# Altium footprint library AIRZAI_LID_BD_REVA.PcbLib: 57 footprints (part 2 of 4)
Each footprint in its own frame and in the unit in brackets; x right, y up, seen from the top. Pads: shape width x height; smd on the part's side, far side on the other; paste and mask are expansions set on the pad; w line width, h text height; cw(c..) or ccw(c..) is an arc to the next point about the centre after c.
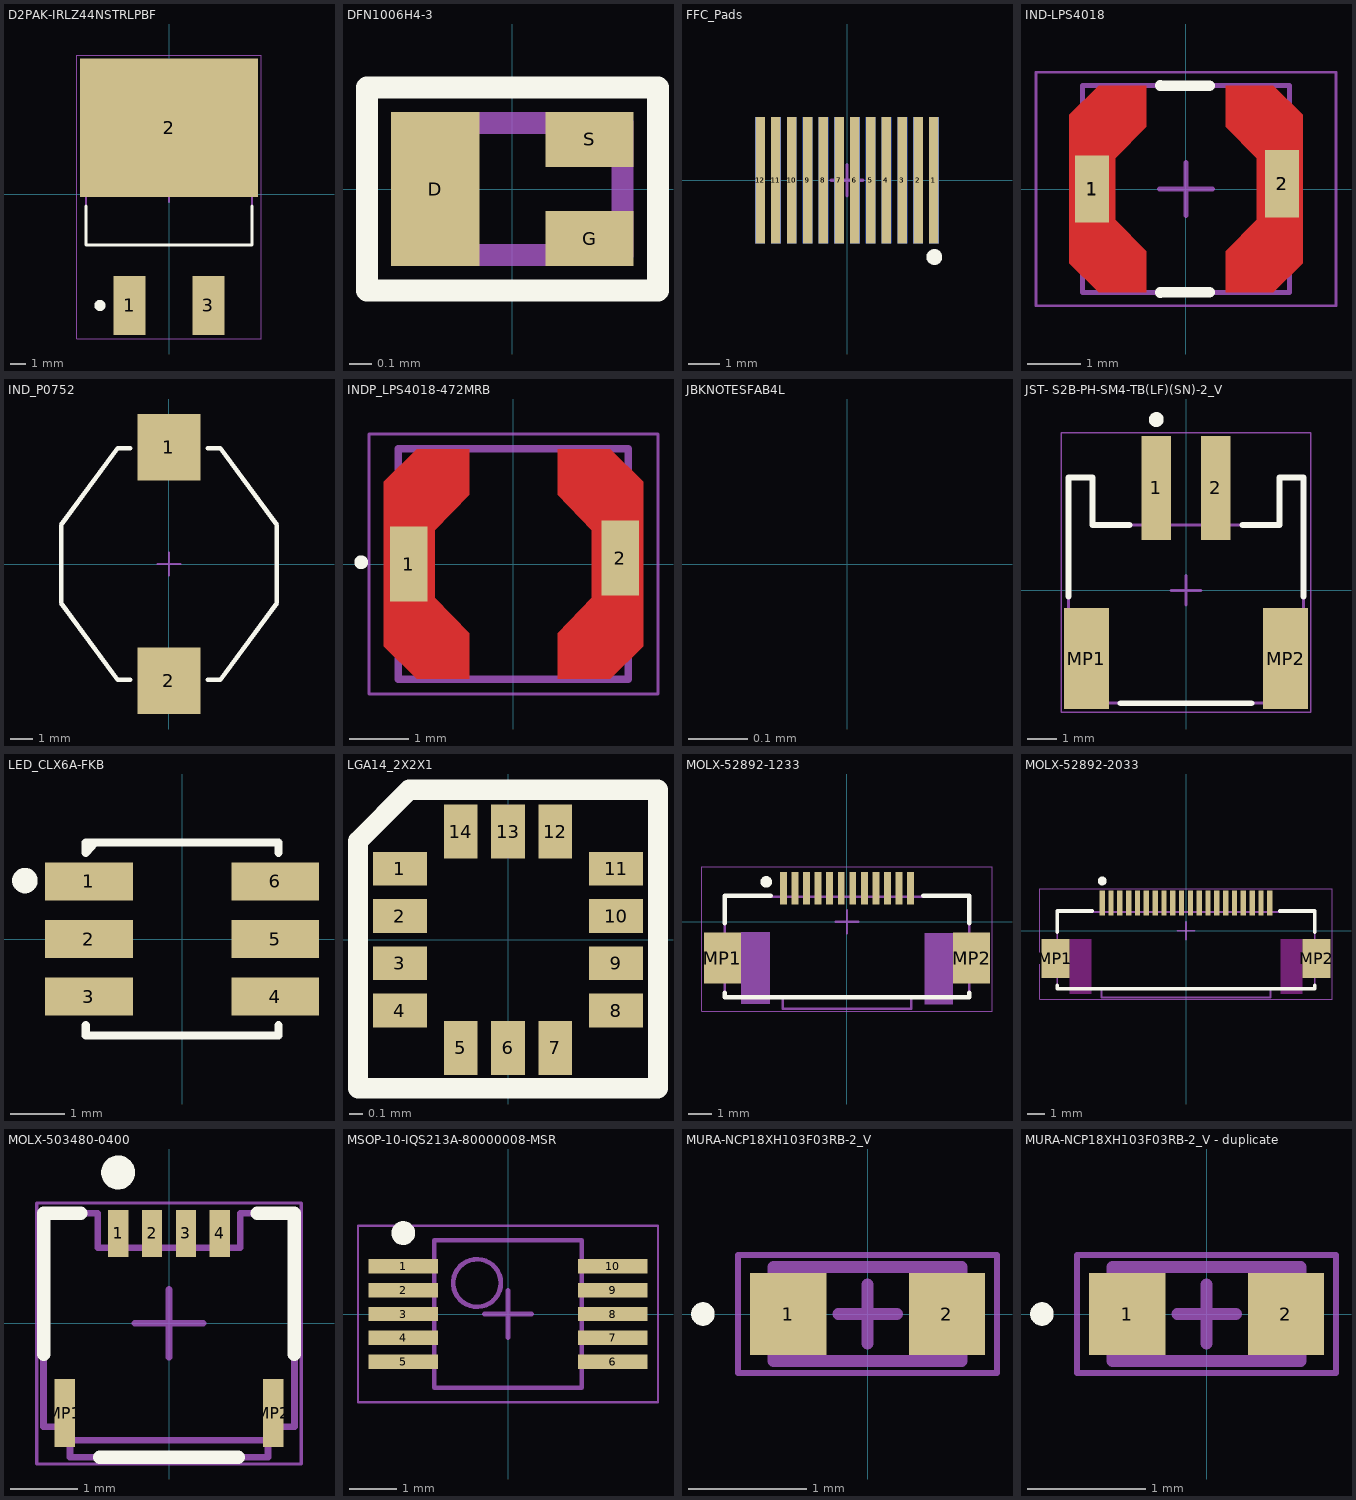
[diagram p1: the footprints below, top view; thin cyan lines are the x and y axes]

## D2PAK-IRLZ44NSTRLPBF [mm]
pads (3):
  rect 2.08x3.81 smd: 1(-2.54,-7.14) 3(2.54,-7.14)
  rect 11.43x8.89 smd: 2(0,4.29)
Top Overlay:
  circle w0.356: c-4.445,-7.14 r0.178
  lines w0.198: -5.34,-0.74 -5.34,-3.24 5.34,-3.24 5.34,-0.74
Mechanical 4:
  lines w0.127: -5.34,-3.24 5.34,-3.24 ; -5.34,-3.24 -5.34,6.42 ; -5.34,-3.24 5.34,-3.24 ; -5.34,-3.24 -5.34,6.42 ; -5.34,6.42 5.34,6.42 ; -5.34,6.42 5.34,6.42 ; 5.34,-3.24 5.34,6.42 ; 5.34,-3.24 5.34,6.42
Mechanical 15:
  lines w0.1: -0.5,0 0.5,0 ; 0,-0.5 0,0.5
Mechanical 16:
  lines w0.05: -5.95,-9.3 5.95,-9.3 5.95,8.95 -5.95,8.95 -5.95,-9.3
3D body "User Library-D²PAK TO-263-3.STEP": height 4.87, standoff 0, extent -5.054,-7.954 5.106,6.276

## DFN1006H4-3 [mm]
height 5.1
pads (3):
  rect 0.4x0.7 smd paste-0.05 mask+0.05: D(-0.35,0)
  rect 0.4x0.25 smd paste-0.05 mask+0.05: G(0.35,-0.225) S(0.35,0.225)
Top Overlay:
  lines w0.1: -0.66,-0.46 0.66,-0.46 0.66,0.46 -0.66,0.46 -0.66,-0.46
Mechanical 1:
  lines w0.1: -0.5,-0.3 0.5,-0.3 0.5,0.3 -0.5,0.3 -0.5,-0.3
3D body: height 0.5, standoff 0, extent -0.5,-0.3 0.5,0.3

## FFC_Pads [mm] "(0.50mm"
height 2.052
pads (24):
  rect 0.3x4 smd far side: 1(2.75,0) 2(2.25,0) 3(1.75,0) 4(1.25,0) 5(0.75,0) 6(0.25,0) 7(-0.25,0) 8(-0.75,0) 9(-1.25,0) 10(-1.75,0) 11(-2.25,0) 12(-2.75,0)
  rect 0.3x4 smd: 1(2.75,0) 2(2.25,0) 3(1.75,0) 4(1.25,0) 5(0.75,0) 6(0.25,0) 7(-0.25,0) 8(-0.75,0) 9(-1.25,0) 10(-1.75,0) 11(-2.25,0) 12(-2.75,0)
Top Overlay:
  circle w0.25: c2.762,-2.432 r0.125
Mechanical 15:
  lines w0.1: -0.5,0 0.5,0 ; 0,-0.5 0,0.5

## IND-LPS4018 [mm] "Inductor, 2-Leads, Body 3.90x3.90mm, IPC Medium Density"
height 1.8
pads (4):
  rect 0.635x1.27 smd: 1(-1.77,0) 1(-1.77,0) 2(1.81,0.1) 2(1.81,0.1)
Top Layer:
  region: 1.64,1.945 0.75,1.945 0.75,1.17 1.33,0.575 1.33,-0.575 0.75,-1.17 0.75,-1.945 1.64,-1.945 2.2,-1.395 2.2,1.395
  region: -1.64,-1.945 -0.75,-1.945 -0.75,-1.17 -1.33,-0.575 -1.33,0.575 -0.75,1.17 -0.75,1.945 -1.64,1.945 -2.2,1.395 -2.2,-1.395
Top Overlay:
  lines w0.2: -0.487,-1.95 0.443,-1.947 ; -0.487,1.95 0.443,1.947
Top Paste:
  region: 1.64,1.945 0.75,1.945 0.75,1.17 1.33,0.575 1.33,-0.575 0.75,-1.17 0.75,-1.945 1.64,-1.945 2.2,-1.395 2.2,1.395
  region: -1.64,-1.945 -0.75,-1.945 -0.75,-1.17 -1.33,-0.575 -1.33,0.575 -0.75,1.17 -0.75,1.945 -1.64,1.945 -2.2,1.395 -2.2,-1.395
Top Solder:
  region: 1.72,-2.09 0.65,-2.09 0.65,-1.1 1.22,-0.53 1.22,0.53 0.65,1.12 0.65,2.09 1.72,2.09 2.34,1.47 2.34,-1.47
  region: -1.72,2.09 -0.65,2.09 -0.65,1.16 -1.22,0.53 -1.22,-0.53 -0.65,-1.15 -0.65,-2.09 -1.72,-2.09 -2.34,-1.47 -2.34,1.47
Mechanical 13:
  lines w0.1: -1.95,-1.95 1.95,-1.95 1.95,1.95 -1.95,1.95 -1.95,-1.95
Mechanical 15:
  lines w0.05: -2.825,-2.2 2.825,-2.2 2.825,2.2 -2.825,2.2 -2.825,-2.2
  lines w0.1: -0.5,0 0.5,0 ; 0,-0.5 0,0.5
3D body "Coilcraft-LPS4018.STEP": height 1.8, standoff 0, extent -1.99,-1.99 1.99,1.99

## IND_P0752 [mm]
height 5.46
pads (2):
  rect 2.79x2.92 smd paste-0.1 mask+0.1: 1(0,5.145) 2(0,-5.145)
Top Overlay:
  lines w0.2: -4.75,-1.71 -4.75,1.71 ; -1.7,-5.106 -2.261,-5.106 -4.75,-1.71 -4.75,1.71 ; -1.7,5.106 -2.261,5.105 -4.75,1.71 ; 1.7,-5.106 2.261,-5.106 4.75,-1.71 4.75,1.71 ; 1.7,5.106 2.261,5.105 4.75,1.71 ; 4.75,-1.71 4.75,1.71
Mechanical 15:
  lines w0.1: -0.5,0 0.5,0 ; 0,-0.5 0,0.5
3D body: height 5.46, standoff 4.5, extent -4.2,-4.2 4.2,4.2
3D body "User Library-P0752.STEP": height 4.8, standoff 0.05, extent -4.625,-6.3 4.625,6.3

## INDP_LPS4018-472MRB [mm]
pads (2):
  rect 0.635x1.27 smd: 1(-1.77,0) 2(1.81,0.1)
Top Layer:
  region: 1.64,1.945 0.75,1.945 0.75,1.17 1.33,0.575 1.33,-0.575 0.75,-1.17 0.75,-1.945 1.64,-1.945 2.2,-1.395 2.2,1.395
  region: -1.64,-1.945 -0.75,-1.945 -0.75,-1.17 -1.33,-0.575 -1.33,0.575 -0.75,1.17 -0.75,1.945 -1.64,1.945 -2.2,1.395 -2.2,-1.395
Top Overlay:
  circle w0.127: c-2.58,0.03 r0.054
Top Paste:
  region: 1.64,1.945 0.75,1.945 0.75,1.17 1.33,0.575 1.33,-0.575 0.75,-1.17 0.75,-1.945 1.64,-1.945 2.2,-1.395 2.2,1.395
  region: -1.64,-1.945 -0.75,-1.945 -0.75,-1.17 -1.33,-0.575 -1.33,0.575 -0.75,1.17 -0.75,1.945 -1.64,1.945 -2.2,1.395 -2.2,-1.395
Top Solder:
  region: 1.72,-2.09 0.65,-2.09 0.65,-1.1 1.22,-0.53 1.22,0.53 0.65,1.12 0.65,2.09 1.72,2.09 2.34,1.47 2.34,-1.47
  region: -1.72,2.09 -0.65,2.09 -0.65,1.16 -1.22,0.53 -1.22,-0.53 -0.65,-1.15 -0.65,-2.09 -1.72,-2.09 -2.34,-1.47 -2.34,1.47
Mechanical 4:
  lines w0.127: -1.95,-1.95 -1.95,1.95 ; -1.95,-1.95 1.95,-1.95 ; -1.95,-1.95 -1.95,1.95 ; -1.95,-1.95 1.95,-1.95 ; -1.95,1.95 1.95,1.95 ; -1.95,1.95 1.95,1.95 ; 1.95,-1.95 1.95,1.95 ; 1.95,-1.95 1.95,1.95
Mechanical 16:
  lines w0.05: -2.45,-2.2 2.45,-2.2 2.45,2.2 -2.45,2.2 -2.45,-2.2

## JBKNOTESFAB4L [mm]
height 0.33
pads (1):
  round 0 all layers, no hole: 1(0,0)
Drill Drawing:
  text "8. NO SILKSCREEN." at 0.075,-45.575 h2.1
  text "AND BE RoHS COMPLIANT." at 7.757,-29.069 h1.91
  text "LOCATED AS SHOWN, ON BOTTOM TRACE LAYER." at 8.05,-56.34 h1.91
  text "USING ARTWORK AND DRILL FILES SUPPLIED WITH THIS DRAWING." at 7.557,-11.167 h1.91
  text "4.  ALL MATERIALS TO HAVE A FLAMMABILITY RATING 94 V-0 OR BETTER," at -0.135,-26.072 h1.91
  text "2.  MATERIAL: USE AN APPROVED LEAD-FREE FR-4, WITH A MINIMUM 170 TG RATING." at -0.285,-14.833 h1.91
  text "NOTES UNLESS OTHERWISE SPECIFIED:" at 0,-3.175 h2.38
  text "1.  BOARD TO BE FABRICATED IN ACCORDANCE WITH IPC-A-600," at -0.535,-7.87 h1.91
  text "WITH THIS PART MAY REQUIRE SPECIAL SAFETY PRECAUTIONS." at 8,-72.5 h1.91
  text "3.  SOLDERMASK BOTH SIDES. THICKNESS NOT TO EXCEED .002 IN." at -0.285,-22.145 h1.91
  text "FINISHED COPPER THICKNESS PER LAYER STACK." at 7.358,-18.546 h1.91
  text "11.  WARNING: THE MANUFACTURING PROCESSES AND THE MATERIALS ASSOCIATED" at -1,-68.75 h1.91
  text "5.  REFERENCE POINT 0,0 FOR DRILL FILE LISTING." at -0.285,-33.095 h1.91
  text "10.  VENDOR IDENTIFICATION, UL COMPLIANCE AND DATE CODE TO BE PERMANTLY" at -1.334,-60.758 h1.91
  text "AFFIXED AND LOCATED AS SHOWN, ON BOTTOM TRACE LAYER." at -1.341,-64.282 h1.91
  text "6.  WARP NOT TO EXCEED IPC SPECIFICATION FOR CLASS 2 PCB'S." at -0.385,-37.055 h1.91
  text "9.  ELECTRICAL TEST REQUIRED, ELECTRICAL TEST MARK," at -0.007,-53.277 h1.91
  text "7.  BOARD FINISH ENIG." at -0.135,-40.976 h1.91

## JST- S2B-PH-SM4-TB(LF)(SN)-2_V [mm] "SMD, 2-Leads, Body 7.9x7.6mm, Pitch 2mm"
height 5.5
pads (4):
  rect 1x3.5 smd: 1(-1,3.45) 2(1,3.45)
  rect 1.5x3.4 smd: MP1(-3.35,-2.3) MP2(3.35,-2.3)
Top Overlay:
  circle w0.25: c-1,5.75 r0.125
  lines w0.2: -3.95,-0.2 -3.95,3.8 -3.15,3.8 -3.15,2.2 -1.9,2.2 ; -2.2,-3.8 2.2,-3.8 ; 1.9,2.2 3.15,2.2 3.15,3.8 3.95,3.8 3.95,-0.2
Mechanical 13:
  lines w0.1: -3.95,-3 -3.95,3.8 -3.15,3.8 -3.15,2.2 3.15,2.2 3.15,3.8 3.95,3.8 3.95,-3 3.45,-3 3.45,-3.8 -3.45,-3.8 -3.45,-3 -3.95,-3
Mechanical 15:
  lines w0.05: -4.2,-4.1 4.2,-4.1 4.2,5.3 -4.2,5.3 -4.2,-4.1
  lines w0.1: -0.5,0 0.5,0 ; 0,-0.5 0,0.5
3D body "S2B-PH-SM4-TB.STEP": height 5.6, standoff 0, extent -3.95,-3.8 3.95,4.8

## LED_CLX6A-FKB [mm] "CREE LED 3 IN 1"
height 2.9
pads (6):
  rect 1.6x0.7 smd paste-0.1 mask+0.07: 1(-1.7,1.05) 2(-1.7,0) 3(-1.7,-1.05) 4(1.7,-1.05) 5(1.7,0) 6(1.7,1.05)
Top Overlay:
  circle w0.25: c-2.87,1.067 r0.108
  lines w0.15: -1.76,-1.575 -1.76,-1.76 1.76,-1.76 1.76,-1.575 ; -1.76,1.575 -1.76,1.76 1.76,1.76 1.76,1.575 ; -1.743,1.59 -1.6,1.75
3D body: height 2.9, standoff 0, extent -1.76,1.49 -1.49,1.76
3D body: height 1.7, standoff 0, extent -1.8,-1.325 1.8,-0.725
3D body: height 1.7, standoff 0, extent -1.8,0.75 1.8,1.35
3D body: height 1.7, standoff 0, extent -1.8,-0.3 1.8,0.3
3D body: height 2.89, standoff 0, extent -1.75,-1.75 1.75,1.75

## LGA14_2X2X1 [mm]
height 1
pads (14):
  rect 0.4x0.25 smd paste+0 mask+0: 1(-0.8,0.525) 2(-0.8,0.175) 3(-0.8,-0.175) 4(-0.8,-0.525) 8(0.8,-0.525) 9(0.8,-0.175) 10(0.8,0.175) 11(0.8,0.525)
  rect 0.25x0.4 smd paste+0 mask+0: 5(-0.35,-0.8) 6(0,-0.8) 7(0.35,-0.8) 12(0.35,0.8) 13(0,0.8) 14(-0.35,0.8)
Top Overlay:
  lines w0.15: -1.11,-1.1 1.11,-1.1 1.11,1.11 -0.73,1.11 -1.11,0.73 -1.11,-1.1
3D body: height 1, standoff 0, extent -1,-1 1,1

## MOLX-52892-1233 [mm] "FPC Connector, 12-Leads, Right Angle, Pitch 0.5 mm, Mated Height 2.0 mm, SMT"
height 2.052
pads (14):
  rect 0.3x1.4 smd: 1(-2.75,1.448) 2(-2.25,1.448) 3(-1.75,1.448) 4(-1.25,1.448) 5(-0.75,1.448) 6(-0.25,1.448) 7(0.25,1.448) 8(0.75,1.448) 9(1.25,1.448) 10(1.75,1.448) 11(2.25,1.448) 12(2.75,1.448)
  rect 1.6x2.2 smd: MP1(-5.4,-1.575) MP2(5.4,-1.575)
Top Overlay:
  circle w0.25: c-3.5,1.725 r0.125
  lines w0.2: -5.3,-3.075 -5.3,-3.275 5.3,-3.275 5.3,-3.075 ; -5.3,-0.075 -5.3,1.125 -3.3,1.125 ; 3.3,1.125 5.3,1.125 5.3,-0.075
Mechanical 5:
  rectangle: -4.597,-3.556 -3.327,-0.457
  rectangle: 3.353,-3.581 4.597,-0.483
Mechanical 13:
  lines w0.1: -5.3,-3.275 -5.3,1.125 -3.5,1.125 -3.5,1.075 3.5,1.075 3.5,1.125 5.3,1.125 5.3,-3.275 2.785,-3.275 2.785,-3.775 -2.785,-3.775 -2.785,-3.275 -5.3,-3.275
Mechanical 15:
  lines w0.05: -6.3,-3.875 6.3,-3.875 6.3,2.375 -6.3,2.375 -6.3,-3.875
  lines w0.1: -0.5,0 0.5,0 ; 0,-0.5 0,0.5
3D body "528921233.stp": height 2.05, standoff 0.01, extent -5.7,-3.775 5.7,1.725

## MOLX-52892-2033 [mm] "FPC Connector, 20-Leads, Right Angle, Pitch 0.5 mm, Mated Height 2.0 mm, SMT"
height 2.052
pads (22):
  rect 0.3x1.4 smd: 1(-4.75,1.575) 2(-4.25,1.575) 3(-3.75,1.575) 4(-3.25,1.575) 5(-2.75,1.575) 6(-2.25,1.575) 7(-1.75,1.575) 8(-1.25,1.575) 9(-0.75,1.575) 10(-0.25,1.575) 11(0.25,1.575) 12(0.75,1.575) 13(1.25,1.575) 14(1.75,1.575) 15(2.25,1.575) 16(2.75,1.575) 17(3.25,1.575) 18(3.75,1.575) 19(4.25,1.575) 20(4.75,1.575)
  rect 1.6x2.2 smd: MP1(-7.4,-1.575) MP2(7.4,-1.575)
Top Overlay:
  circle w0.25: c-4.75,2.825 r0.125
  lines w0.2: -7.3,-3.075 -7.3,-3.275 7.3,-3.275 7.3,-3.075 ; -7.3,-0.075 -7.3,1.125 -5.3,1.125 ; 5.3,1.125 7.3,1.125 7.3,-0.075
Keep-Out Layer:
  rectangle: 5.35,-3.575 6.6,-0.475
  rectangle: -6.6,-3.575 -5.35,-0.475
Mechanical 13:
  lines w0.1: -7.3,-3.275 -7.3,1.125 -5.5,1.125 -5.5,1.075 5.5,1.075 5.5,1.125 7.3,1.125 7.3,-3.275 4.785,-3.275 4.785,-3.775 -4.785,-3.775 -4.785,-3.275 -7.3,-3.275
Mechanical 15:
  lines w0.05: -8.3,-3.875 8.3,-3.875 8.3,2.375 -8.3,2.375 -8.3,-3.875
  lines w0.1: -0.5,0 0.5,0 ; 0,-0.5 0,0.5
3D body "528922033.stp": height 2.05, standoff 0.01, extent -7.7,-3.775 7.7,1.725

## MOLX-503480-0400 [mm] "FPC Connector, 4-Leads, Right Angle, Pitch 0.5 mm, Mated Height 1.0 mm, SMT"
height 1.907
pads (6):
  rect 0.3x0.7 smd: 1(-0.75,1.325) 2(-0.25,1.325) 3(0.25,1.325) 4(0.75,1.325)
  rect 0.3x1 smd: MP1(-1.54,-1.325) MP2(1.54,-1.325)
Top Overlay:
  circle w0.25: c-0.75,2.225 r0.125
  lines w0.2: -1.85,-0.458 -1.85,1.625 ; -1.85,1.625 -1.3,1.625 ; -1.019,-1.975 1.019,-1.975 ; 1.3,1.625 1.85,1.625 ; 1.85,-0.458 1.85,1.625
Mechanical 13:
  lines w0.1: -1.46,-1.725 1.441,-1.725 ; 1.85,1.625 1.05,1.625 1.05,1.115 -1.05,1.115 -1.05,1.625 -1.85,1.625 -1.85,-1.525 -1.46,-1.525 -1.46,-1.975 1.46,-1.975 1.46,-1.525 1.85,-1.525 1.85,1.625
Mechanical 15:
  lines w0.05: -1.95,-2.075 -1.95,1.775 1.95,1.775 1.95,-2.075 -1.95,-2.075
  lines w0.1: -0.5,0 0.5,0 ; 0,-0.5 0,0.5
3D body "5034800400.stp": height 1.91, standoff 0.01, extent -1.85,-1.975 1.85,1.625

## MSOP-10-IQS213A-80000008-MSR [mm]
height 0.96
pads (10):
  rect 1.45x0.3 smd: 1(-2.2,1) 2(-2.2,0.5) 3(-2.2,0) 4(-2.2,-0.5) 5(-2.2,-1) 6(2.2,-1) 7(2.2,-0.5) 8(2.2,0) 9(2.2,0.5) 10(2.2,1)
Top Overlay:
  circle w0.25: c-2.2,1.7 r0.125
Mechanical 13:
  circle w0.1: c-0.65,0.65 r0.5
  lines w0.1: -1.55,-1.55 1.55,-1.55 1.55,1.55 -1.55,1.55 -1.55,-1.55
Mechanical 15:
  lines w0.05: -3.15,-1.85 3.15,-1.85 3.15,1.85 -3.15,1.85 -3.15,-1.85
  lines w0.1: -0.5,0 0.5,0 ; 0,-0.5 0,0.5
3D body "MSOP-10-IQS213A-80000008-MSR.step": height 0.96, standoff 0, extent -2.45,-1.6 2.45,1.6

## MURA-NCP18XH103F03RB-2_V [mm] "Chip, 2-Leads, Body 1.6x0.8mm"
height 0.8
pads (2):
  rect 0.65x0.7 smd: 1(-0.675,0) 2(0.675,0)
Top Overlay:
  circle w0.1: c-1.4,0 r0.05
Mechanical 13:
  lines w0.1: -0.8,-0.4 -0.8,0.4 0.8,0.4 0.8,-0.4 -0.8,-0.4
Mechanical 15:
  lines w0.05: -1.1,-0.5 -1.1,0.5 1.1,0.5 1.1,-0.5 -1.1,-0.5
  lines w0.1: -0.25,0 0.25,0 ; 0,-0.25 0,0.25
3D body: height 0.8, standoff 0, extent -0.8,-0.4 0.8,0.4

## MURA-NCP18XH103F03RB-2_V - duplicate [mm] "Chip, 2-Leads, Body 1.6x0.8mm"
height 0.8
pads (2):
  rect 0.65x0.7 smd: 1(-0.675,0) 2(0.675,0)
Top Overlay:
  circle w0.1: c-1.4,0 r0.05
Mechanical 13:
  lines w0.1: -0.8,-0.4 -0.8,0.4 0.8,0.4 0.8,-0.4 -0.8,-0.4
Mechanical 15:
  lines w0.05: -1.1,-0.5 -1.1,0.5 1.1,0.5 1.1,-0.5 -1.1,-0.5
  lines w0.1: -0.25,0 0.25,0 ; 0,-0.25 0,0.25
3D body: height 0.8, standoff 0, extent -0.8,-0.4 0.8,0.4